# EAGLE library part SFH7050 (library SFH7050)
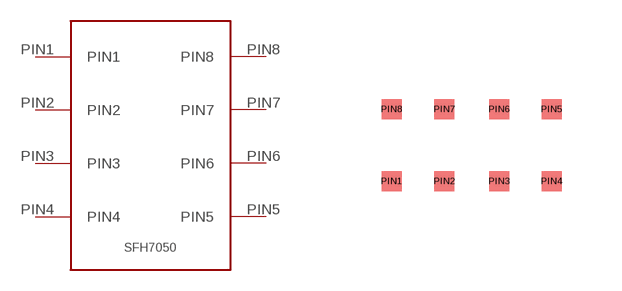
[diagram p0: symbol with the pads of SFH7050; footprint SFH7050]

Designator prefix -

## SFH7050  [SFH7050]
PIN1  PIN1
PIN2  PIN2
PIN3  PIN3
PIN4  PIN4
PIN5  PIN5
PIN6  PIN6
PIN7  PIN7
PIN8  PIN8

## Footprint SFH7050 (pad centres in mm)
smd 0.5 x 0.5: PIN1 -2,-0.9; PIN2 -0.68,-0.9; PIN3 0.69,-0.9; PIN4 2,-0.9; PIN5 2,0.9; PIN6 0.69,0.9; PIN7 -0.68,0.9; PIN8 -2,0.9